# Altium footprint library 二级.PcbLib: 1 footprints
Each footprint in its own frame and in the unit in brackets; x right, y up, seen from the top. Pads: shape width x height; smd on the part's side, far side on the other; paste and mask are expansions set on the pad; w line width, h text height; cw(c..) or ccw(c..) is an arc to the next point about the centre after c.
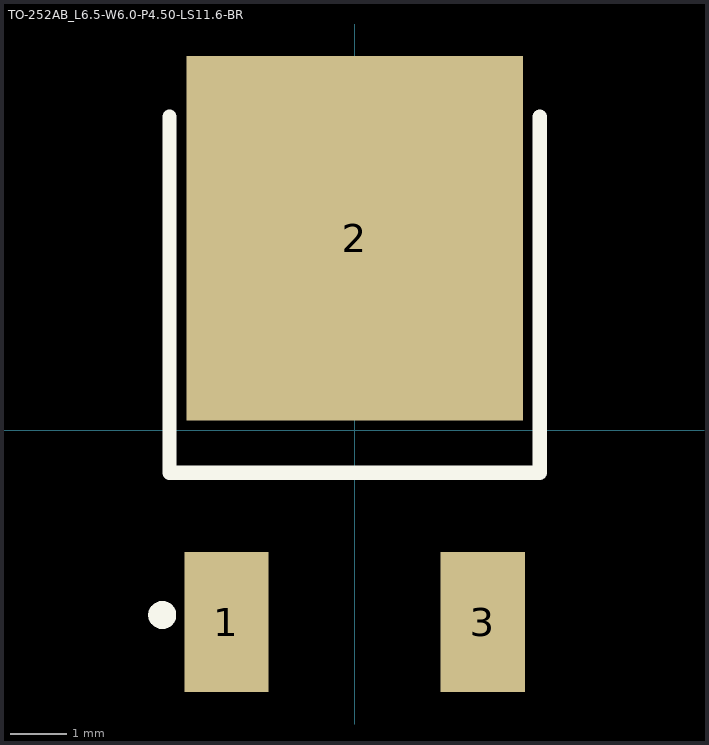
[diagram p0: the footprint, top view; thin cyan lines are the x and y axes]

## TO-252AB_L6.5-W6.0-P4.50-LS11.6-BR [mm]
pads (3):
  rect 1.5x2.5 smd: 1(-2.285,-3.425) 3(2.285,-3.425)
  rect 6x6.5 smd: 2(0,3.425)
Top Overlay:
  lines w0.25: -3.556,-3.302 ccw(c-3.431,-3.299) -3.556,-3.297
  lines w0.254: -3.302,5.588 -3.302,-0.762 3.302,-0.762 3.302,5.588